# EAGLE library part HDSM-291 (library omcOpto)
HDSM-291x - 0.28” (7.0mm) - Dual digit surface mount LED display 0.28” digit height Low current operation Excellent characters appearance Available in CA and CC 1000 pieces per reel Moisture sensitivity level: Level 3 RoHS compliant Colour: red, green, yellow, orange Avago Technologies Datasheet <http://www.avagotech.com/docs/AV02-0981EN>
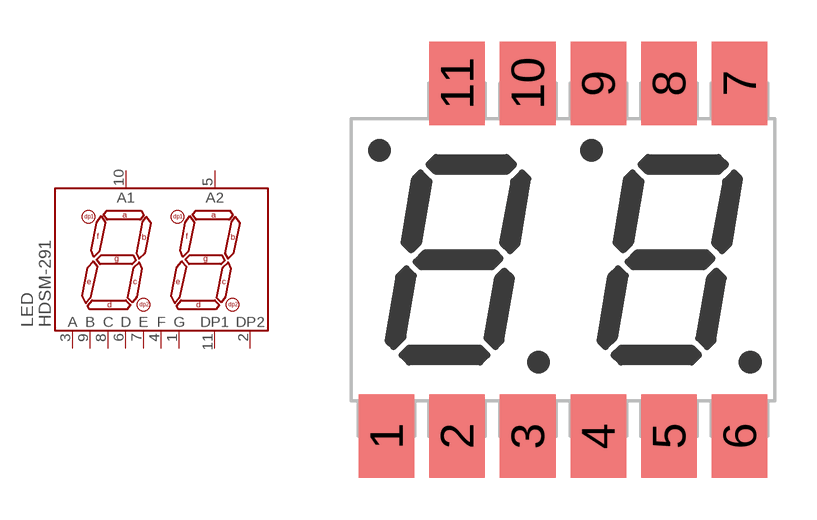
[diagram p0: symbol with the pads of HDSM29X; footprint HDSM29X]

Designator prefix LED

## HDSM-291C (DIST#DIGIKEY#: HDSM-291C-ND; DIST#FARNELL#: 1651415; VALUE: Red; VENDOR#: Avago Technologies,HDSM-291C), HDSM-291F (DIST#DIGIKEY#: HDSM-291F-ND; VALUE: Yellow; VENDOR#: Avago Technologies,HDSM-291F), HDSM-291H (DIST#DIGIKEY#: HDSM-291H-ND; VALUE: Green; VENDOR#: Avago Technologies,HDSM-291H), HDSM-291L (DIST#DIGIKEY#: HDSM-291L-ND; VALUE: Orange; VENDOR#: Avago Technologies,HDSM-291L)  [HDSM29X]
1  G  pas
2  DP2  pas
3  A  pas
4  F  pas
5  A2  pas
6  D  pas
7  E  pas
8  C  pas
9  B  pas
10  A1  pas
11  DP1  pas

## Footprint HDSM29X (pad centres in mm)
Package HDSM-291x/293x SMD 15mm×12mm
smd 2 x 3: 1 -6.35,-6.35; 2 -3.81,-6.35; 3 -1.27,-6.35; 4 1.27,-6.35; 5 3.81,-6.35; 6 6.35,-6.35; 7 6.35,6.35; 8 3.81,6.35; 9 1.27,6.35; 10 -1.27,6.35; 11 -3.81,6.35